# Altium footprint library IQ解调器-封装.PcbLib: 14 footprints
Each footprint in its own frame and in the unit in brackets; x right, y up, seen from the top. Pads: shape width x height; smd on the part's side, far side on the other; paste and mask are expansions set on the pad; w line width, h text height; cw(c..) or ccw(c..) is an arc to the next point about the centre after c.
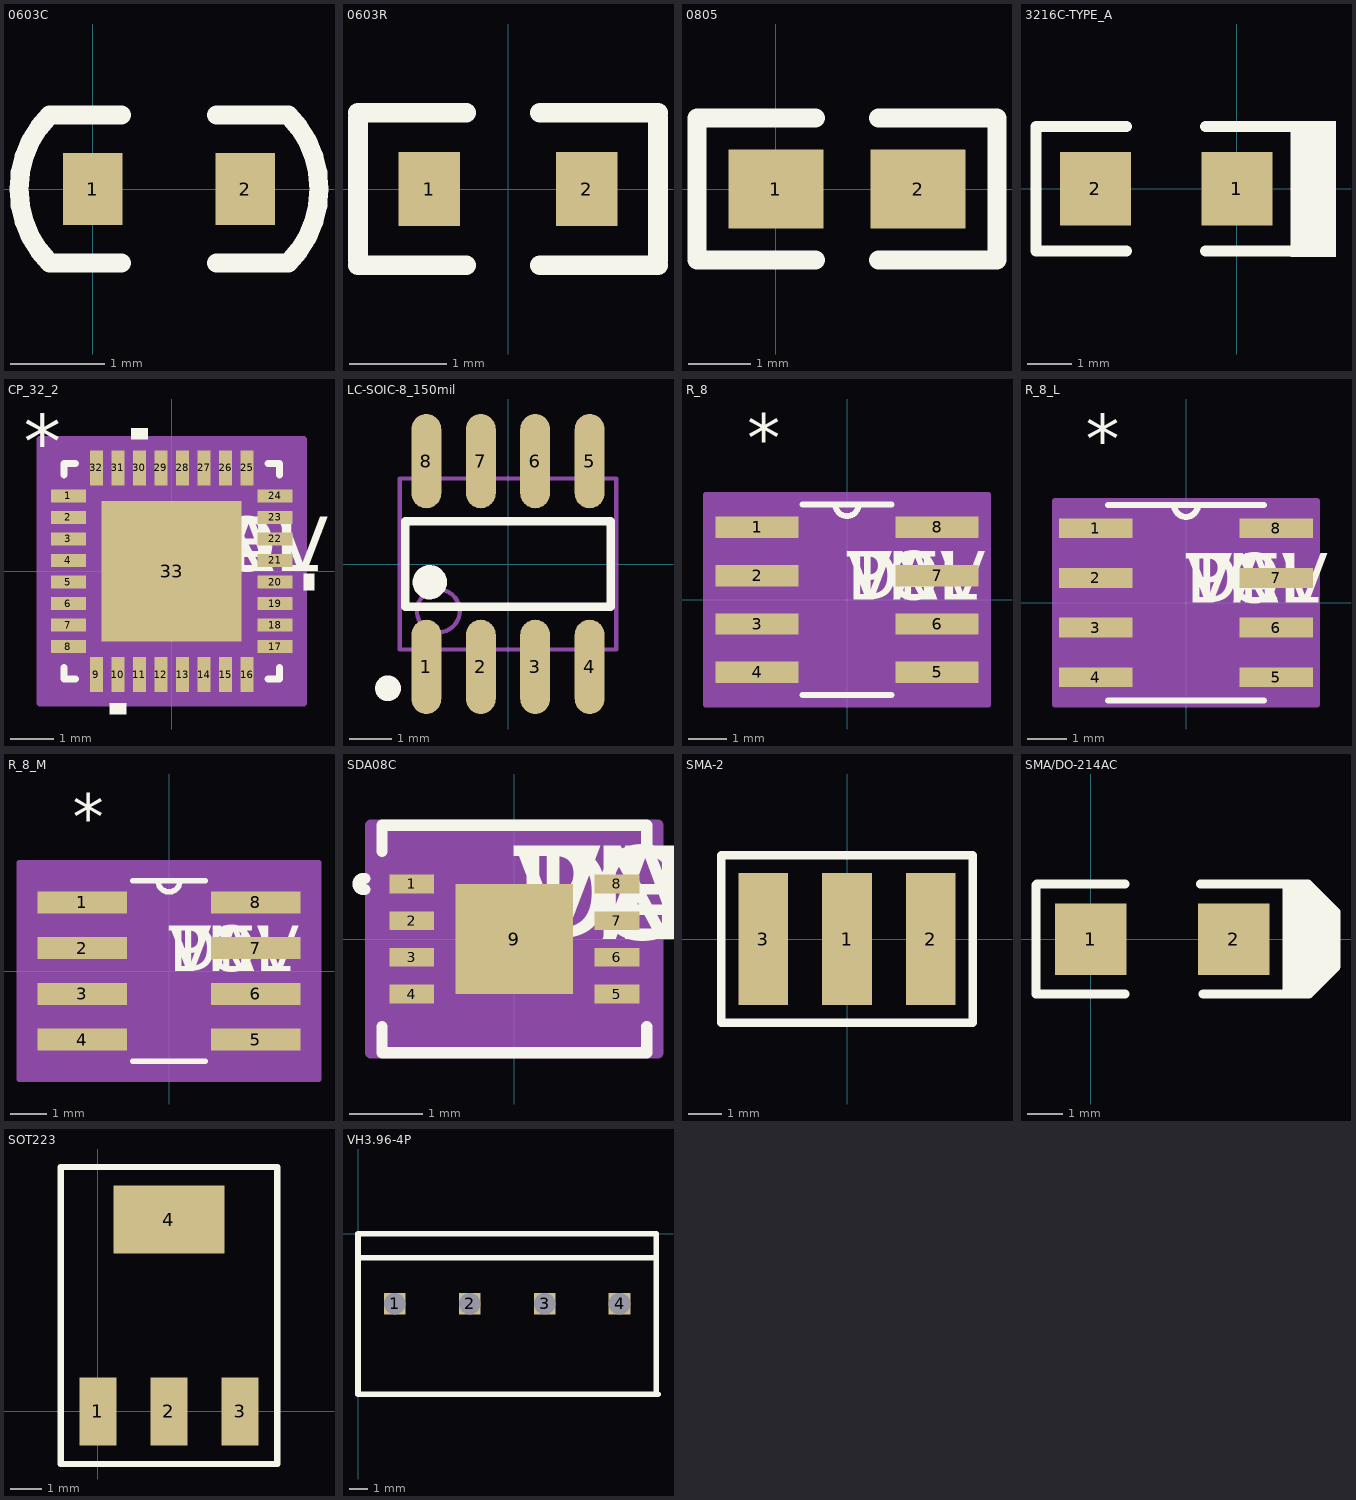
[diagram p0: the footprints below, top view; thin cyan lines are the x and y axes]

## 0603C [mil]
pads (2):
  rect 25x30 smd: 1(0,0) 2(64,0)
Top Overlay:
  lines w8: 12,-31 -18,-31 cw(c13,0) -18,31 12,31 ; 52,-31 82,-31 ccw(c51,0) 82,31 52,31

## 0603R [mil]
pads (2):
  rect 25x30 smd: 1(-32,0) 2(32,0)
Top Overlay:
  lines w8: -61,-31 -17,-31 ; -61,-29 -61,29 ; -61,31 -17,31 ; 13,-31 61,-31 ; 13,31 61,31 ; 61,-29 61,29

## 0805 [mil]
pads (2):
  rect 60x50 smd: 1(0,0) 2(90,0)
Top Overlay:
  lines w12: 25,-45 -50,-45 -50,45 25,45 ; 65,-45 140,-45 140,45 65,45

## 3216C-TYPE_A [mm]
pads (2):
  rect 1.6x1.65 smd: 1(0,0) 2(-3.175,0)
Top Overlay:
  rectangle: 1.206,-1.537 2.222,1.524
  lines w0.254: -2.476,-1.397 -4.508,-1.397 -4.508,1.397 -2.476,1.397 ; -0.699,-1.397 1.206,-1.397 ; -0.699,1.397 1.206,1.397

## CP_32_2 [mil]
pads (33):
  rect 32x12 smd mask+5: 1(-94.5,68.9) 2(-94.5,49.21) 3(-94.5,29.53) 4(-94.5,9.84) 5(-94.5,-9.84) 6(-94.5,-29.53) 7(-94.5,-49.21) 8(-94.5,-68.9) 17(94.5,-68.9) 18(94.5,-49.21) 19(94.5,-29.53) 20(94.5,-9.84) 21(94.5,9.84) 22(94.5,29.53) 23(94.5,49.21) 24(94.5,68.9)
  rect 12x32 smd mask+5: 9(-68.9,-94.5) 10(-49.21,-94.5) 11(-29.53,-94.5) 12(-9.84,-94.5) 13(9.84,-94.5) 14(29.53,-94.5) 15(49.21,-94.5) 16(68.9,-94.5) 25(68.9,94.5) 26(49.21,94.5) 27(29.53,94.5) 28(9.84,94.5) 29(-9.84,94.5) 30(-29.53,94.5) 31(-49.21,94.5) 32(-68.9,94.5)
  rect 128x128 smd mask-63.5: 33(0,0)
Top Overlay:
  region: -22.03,120.5 -37.03,120.5 -37.03,130.5 -22.03,130.5
  region: 120.5,-2.34 130.5,-2.34 130.5,-17.34 120.5,-17.34
  region: -41.71,-120.5 -56.71,-120.5 -56.71,-130.5 -41.71,-130.5
  lines w6: -98.5,-88 -98.5,-98.5 -88,-98.5 ; -98.5,88 -98.5,98.5 -88,98.5 ; 88,-98.5 98.5,-98.5 98.5,-88 ; 88,98.5 98.5,98.5 98.5,88
  text "TOL" at 0,0 h50
  text "VAL" at 0,0 h50
  text "DEV" at 0,0 h50
  text "PN" at 0,0 h50
  text "*" at -135.5,93.74 h50
Mechanical 13:
  text "RefDes2" at 0,0 h50
  text "*" at -135.5,93.74 h50
Mechanical 15:
  region: 120.5,-120.5 -120.5,-120.5 -120.5,120.5 120.5,120.5
  lines w6: -120.5,-120.5 120.5,-120.5 120.5,120.5 -120.5,120.5 -120.5,-120.5
3D body: height 38.1, standoff 0, extent -100.5,-100.5 100.5,100.5

## LC-SOIC-8_150mil [mm]
pads (8):
  oval 0.7x2.2 smd: 1(-1.905,-2.4) 2(-0.635,-2.4) 3(0.635,-2.4) 4(1.905,-2.4) 5(1.905,2.4) 6(0.635,2.4) 7(-0.635,2.4) 8(-1.905,2.4)
Top Overlay:
  circle w0.3: c-2.8,-2.9 r0.15
  circle w0.4: c-1.825,-0.425 r0.2
  lines w0.2: -2.4,-1 2.4,-1 2.4,1 -2.4,1 -2.4,-1
Mechanical 13:
  circle w0.1: c-1.625,-1.095 r0.5
  lines w0.1: -2.525,-1.995 2.525,-1.995 2.525,1.995 -2.525,1.995 -2.525,-1.995

## R_8 [mil]
pads (8):
  rect 86x22 smd: 1(-93,75) 2(-93,25) 3(-93,-25) 4(-93,-75) 5(93,-75) 6(93,-25) 7(93,25) 8(93,75)
Top Overlay:
  lines w6: -46.08,-98.5 46.08,-98.5 ; -46.08,98.5 46.08,98.5 ; -12,98.5 ccw(c0,98.5) 12,98.5
  text "TOL" at 0,0 h50
  text "VAL" at 0,0 h50
  text "DEV" at 0,0 h50
  text "PN" at 0,0 h50
  text "*" at -103,142 h50
Mechanical 13:
  lines w0: -12,98.5 ccw(c0,98.5) 12,98.5
  text "RefDes2" at 0,0 h50
  text "*" at -103,142 h50
Mechanical 15:
  region: 146,-108.5 -146,-108.5 -146,108.5 146,108.5
  lines w6: -146,-108.5 146,-108.5 146,108.5 -146,108.5 -146,-108.5
3D body: height 69.1, standoff 0, extent -122,-98.5 122,98.5

## R_8_L [mil]
pads (8):
  rect 74x20 smd: 1(-91,75) 2(-91,25) 3(-91,-25) 4(-91,-75) 5(91,-75) 6(91,-25) 7(91,25) 8(91,75)
Top Overlay:
  lines w6: -78.5,-98.5 78.5,-98.5 ; -78.5,98.5 78.5,98.5 ; -12,98.5 ccw(c0,98.5) 12,98.5
  text "TOL" at 0,0 h50
  text "VAL" at 0,0 h50
  text "DEV" at 0,0 h50
  text "PN" at 0,0 h50
  text "*" at -101,140 h50
Mechanical 13:
  lines w0: -12,98.5 ccw(c0,98.5) 12,98.5
  text "RefDes2" at 0,0 h50
  text "*" at -101,140 h50
Mechanical 15:
  region: 132,-102.5 -132,-102.5 -132,102.5 132,102.5
  lines w6: -132,-102.5 132,-102.5 132,102.5 -132,102.5 -132,-102.5
3D body: height 69.1, standoff 0, extent -122,-98.5 122,98.5

## R_8_M [mil]
pads (8):
  rect 98x24 smd: 1(-95,75) 2(-95,25) 3(-95,-25) 4(-95,-75) 5(95,-75) 6(95,-25) 7(95,25) 8(95,75)
Top Overlay:
  lines w6: -39.73,-98.5 39.73,-98.5 ; -39.73,98.5 39.73,98.5 ; -12,98.5 ccw(c0,98.5) 12,98.5
  text "TOL" at 0,0 h50
  text "VAL" at 0,0 h50
  text "DEV" at 0,0 h50
  text "PN" at 0,0 h50
  text "*" at -105,144 h50
Mechanical 13:
  lines w0: -12,98.5 ccw(c0,98.5) 12,98.5
  text "RefDes2" at 0,0 h50
  text "*" at -105,144 h50
Mechanical 15:
  region: 164,-118.5 -164,-118.5 -164,118.5 164,118.5
  lines w6: -164,-118.5 164,-118.5 164,118.5 -164,118.5 -164,-118.5
3D body: height 69.1, standoff 0, extent -122,-98.5 122,98.5

## SDA08C [mil]
pads (9):
  rect 24x10 smd paste-5 mask+4: 1(-55,29.53) 2(-55,9.84) 3(-55,-9.84) 4(-55,-29.53) 5(55,-29.53) 6(55,-9.84) 7(55,9.84) 8(55,29.53)
  rect 63x59 smd paste-29.5: 9(0,0)
Top Overlay:
  lines w6: -80.1,26.62 cw(c-80.84,29.53) -80.1,32.43 ; -71,-47 -71,-61 71,-61 71,-47 ; -71,47 -71,61 71,61 71,47
  text "PN" at 0,0 h50
  text "DEV" at 0,0 h50
  text "VAL" at 0,0 h50
  text "TOL" at 0,0 h50
Top Paste:
  region: -51,34.53 -75,34.53 -75,24.53 -51,24.53
  region: -51,14.84 -75,14.84 -75,4.84 -51,4.84
  region: -51,-4.84 -75,-4.84 -75,-14.84 -51,-14.84
  region: -51,-24.53 -75,-24.53 -75,-34.53 -51,-34.53
  region: 75,-24.53 51,-24.53 51,-34.53 75,-34.53
  region: 75,-4.84 51,-4.84 51,-14.84 75,-14.84
  region: 75,14.84 51,14.84 51,4.84 75,4.84
  region: 75,34.53 51,34.53 51,24.53 75,24.53
  region: 27.5,25.5 -27.5,25.5 -27.5,-25.5 27.5,-25.5
Mechanical 13:
  circle w0: c-80.84,29.53 r3
  text "RefDes2" at 0,0 h50
Mechanical 15:
  region: 77,-61 -77,-61 -77,61 77,61
  lines w6: -77,-61 -77,61 77,61 77,-61 -77,-61
3D body: height 32.1, standoff 0, extent -63,-51 63,51

## SMA-2 [mm]
pads (3):
  rect 1.5x4 smd: 1(0,0)
  rect 1.5x4 all layers, no hole: 2(2.54,0) 3(-2.54,0)
Top Overlay:
  lines w0.254: -3.81,-2.54 -3.81,-2.286 -3.81,2.54 3.81,2.54 3.81,-2.54 -3.81,-2.54
3D body: height 3.2, standoff -2.85, extent -3,-11.886 3,1.714

## SMA/DO-214AC [mm]
pads (2):
  rect 2x2 smd: 1(0,0) 2(4,0)
Top Overlay:
  rectangle: 6.35,-0.762 6.858,-0.381
  rectangle: 6.325,-0.61 6.858,0.762
  rectangle: 6.223,-1.118 6.625,0.995
  rectangle: 5.486,-1.295 6.379,1.241
  rectangle: 5.486,-1.473 6.147,1.524
  lines w0.254: -1.524,1.524 -1.524,-1.524 0.965,-1.524 ; -1.499,1.549 0.965,1.549 ; 3.073,1.549 5.486,1.549 6.02,1.549 6.071,1.549 6.833,0.787 6.858,0.762 6.858,-0.762 6.147,-1.473 6.096,-1.524 5.486,-1.524 ; 3.15,-1.524 5.486,-1.524 ; 5.486,1.524 5.486,-1.524 ; 6.262,1.358 6.262,1.033 6.262,0.825 6.431,0.995 6.498,0.995 6.858,0.635 ; 6.579,-0.838 6.579,-0.61

## SOT223 [mm]
pads (4):
  rect 1.2x2.2 smd: 1(0,0) 2(2.3,0) 3(4.6,0)
  rect 3.6x2.2 smd: 4(2.3,6.2)
Top Overlay:
  lines w0.2: -1.2,-1.7 5.8,-1.7 5.8,7.9 -1.2,7.9 -1.2,-1.7

## VH3.96-4P [mm]
pads (4):
  rect 1.14x1.14 hole 1.14: 1(1.95,-3.7) 2(5.91,-3.7) 3(9.87,-3.7) 4(13.83,-3.7)
Top Overlay:
  lines w0.3: 0,-1.27 15.78,-1.27 ; 15.78,-8.414 15.78,0 0,0 0,-8.5 15.866,-8.5